# EAGLE library part LM4889MA_NOPB (library LM4889MA_NOPB)
1W AUDIO POWER AMP, LM4889MA Source: Datasheet <http://www.ti.com/lit/ds/symlink/lm4889.pdf>
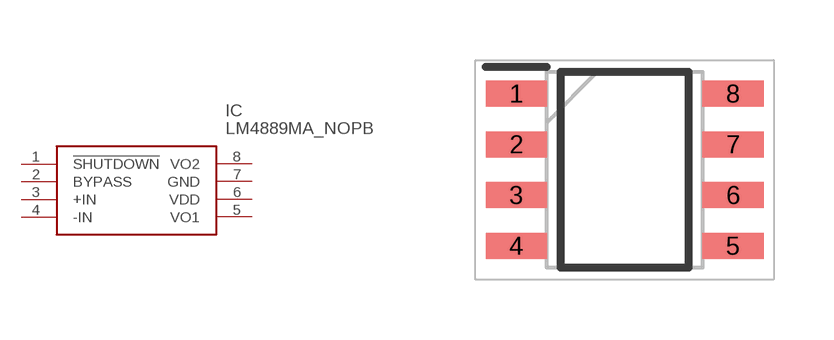
[diagram p0: symbol with the pads of SOIC127P600X175-8N; footprint SOIC127P600X175-8N]

Designator prefix IC

## LM4889MA_NOPB (Description: 1W AUDIO POWER AMP, LM4889MA; Height: 1.75mm; Manufacturer_Name: Texas Instruments; Manufacturer_Part_Number: LM4889MA/NOPB)  [SOIC127P600X175-8N]
1  !SHUTDOWN
2  BYPASS
3  +IN
4  -IN
5  VO1
6  VDD
7  GND
8  VO2

## Footprint SOIC127P600X175-8N (pad centres in mm)
LM4889MA/NOPB_
smd 1.528 x 0.65: 1 -2.711,1.905; 2 -2.711,0.635; 3 -2.711,-0.635; 4 -2.711,-1.905; 5 2.711,-1.905; 6 2.711,-0.635; 7 2.711,0.635; 8 2.711,1.905